# Altium footprint library ALTIUM_{TEX139}_HV-1PH-DCAC-R3.PcbLib: 57 footprints (part 4 of 4)
Each footprint in its own frame and in the unit in brackets; x right, y up, seen from the top. Pads: shape width x height; smd on the part's side, far side on the other; paste and mask are expansions set on the pad; w line width, h text height; cw(c..) or ccw(c..) is an arc to the next point about the centre after c.
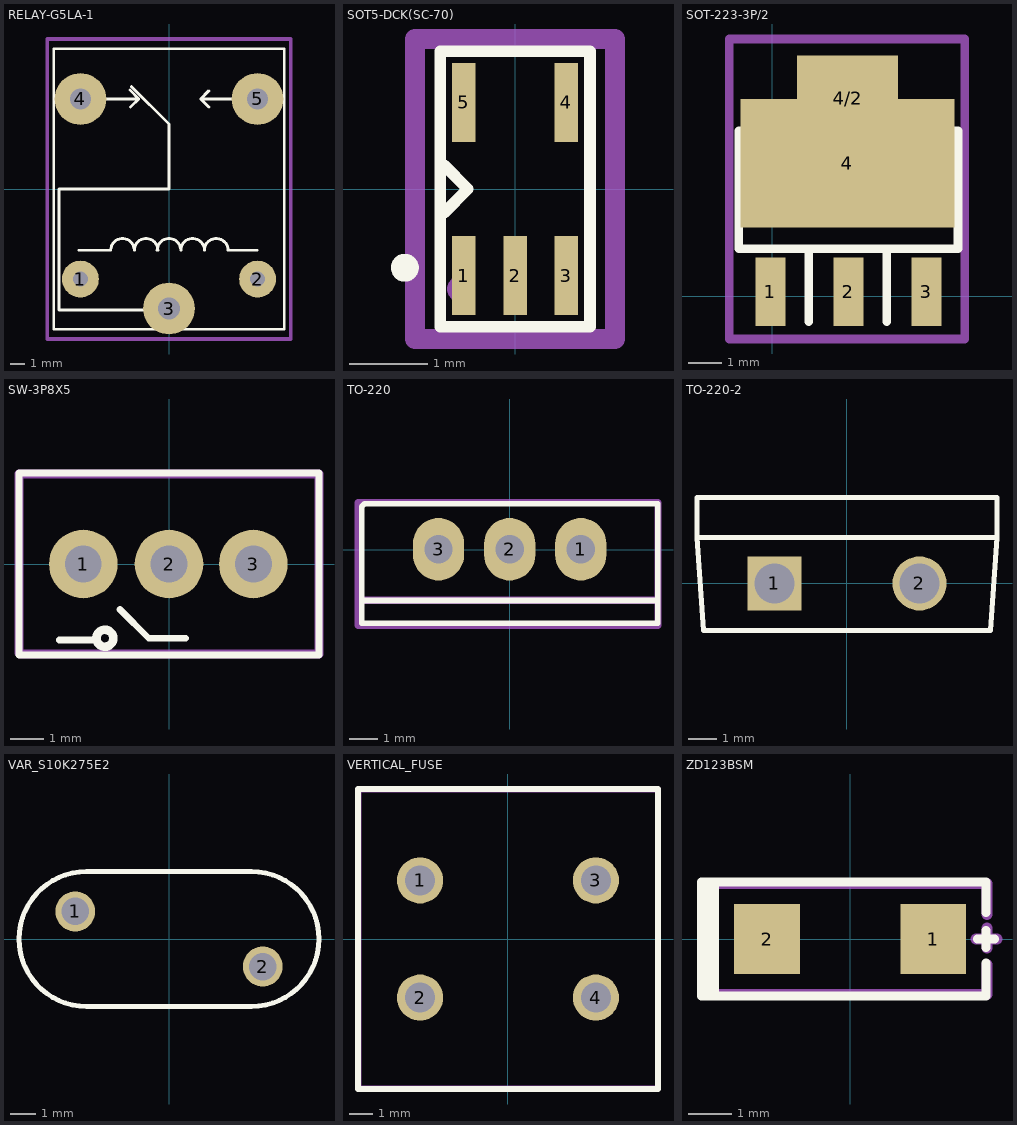
[diagram p3: the footprints below, top view; thin cyan lines are the x and y axes]

## RELAY-G5LA-1 [mm]
pads (5):
  round 2.5 hole 1: 1(-6,-6.1) 2(6,-6.1)
  round 3.5 hole 1.5: 3(0,-8.1)
  round 3.5 hole 1.4: 4(-6,6.1) 5(6,6.1)
Top Overlay:
  lines w0.15: -7.8,-9.5 7.8,-9.5 7.8,9.5 -7.8,9.5 -7.8,-9.5
  lines w0.2: -6.1,-4.15 -4.05,-4.15 ; -6,6.1 -2.05,6.1 ; -3.95,-4.15 cw(c-3.15,-4.15) -2.35,-4.15 cw(c-1.55,-4.15) -0.75,-4.15 ; -2.65,6.7 -2.05,6.1 ; -2.55,6.95 0,4.4 0,2.05 0,0 -7.45,0 -7.45,-8.2 -0.1,-8.2 ; -0.8,-4.15 cw(c0,-4.15) 0.8,-4.15 cw(c1.6,-4.15) 2.4,-4.15 cw(c3.2,-4.15) 4,-4.15 5.95,-4.15 ; 2.7,5.55 2.15,6.1 ; 2.7,6.65 2.15,6.1 ; 6,6.1 2.15,6.1 ; -2.6,5.55 -2.05,6.1 ; -2.6,5.55 -2.6,5.55
Mechanical 5:
  lines w0.254: -8.255,-10.16 8.255,-10.16 8.255,10.16 -8.255,10.16 -8.255,9.525 -8.255,-10.16
  text ".Designator" at -0.737,1.854 h1.52

## SOT5-DCK(SC-70) [mm]
pads (5):
  rect 0.3x1 smd: 1(-0.65,-1.1) 2(0,-1.1) 3(0.65,-1.1) 4(0.65,1.1) 5(-0.65,1.1)
Top Overlay:
  circle w0.254: c-1.4,-1 r0.05
  circle w0.254: c-1.4,-1 r0.05
  lines w0.15: -0.9,-0.3 -0.6,0 -0.9,0.3 ; -0.95,-1.75 0.95,-1.75 0.95,1.75 -0.95,1.75 -0.95,-1.75
Mechanical 5:
  circle w0.254: c-0.685,-1.27 r0.05
  lines w0.254: -1.27,-1.905 1.27,-1.905 1.27,1.905 -1.27,1.905 -1.27,-1.905
  text ".Designator" at 0.635,-1.27 h1.02

## SOT-223-3P/2 [mil]
pads (5):
  rect 35x80 smd: 1(-2,5.08) 2(89,5.08) 3(180,5.08)
  rect 250x150 smd: 4(88,155.08)
  rect 118x100 smd: 4/2(88.14,230.92)
Top Overlay:
  lines w10: 43,-29.92 43,55.08 ; 134,-29.92 134,55.08 ; -39,55.08 -39,193.08 217,193.08 217,55.08 89,55.08 -39,55.08
Mechanical 5:
  lines w10: -50,-50 225,-50 225,300 -50,300 -50,-50
  text ".Designator" at 172,146.85 h60

## SW-3P8X5 [mil]
pads (3):
  round 80 hole 43: 1(-100,0) 2(0,0) 3(98.43,0)
Top Overlay:
  circle w10: c-74.8,-86.61 r9.84
  lines w7.87: -127.95,-88.58 -88.58,-88.58 ; -57.09,-53.15 -23.62,-86.61 19.68,-86.61 ; -175,-106.3 -175,106.3 175,106.3 175,-106.3 -175,-106.3
Mechanical 5:
  lines w10: -175,-104 -174,-105 175,-105 175,105 -175,105 -175,-104
  text ".Designator" at 35,30 h60

## TO-220 [mm]
pads (3):
  oval 1.8x2.2 hole 1: 1(2.495,0.009) 2(-0.005,0.009) 3(-2.505,0.009)
Top Overlay:
  lines w0.2: -5.205,-1.791 5.195,-1.791 ; -5.205,-2.591 -5.205,1.509 -5.105,1.609 5.195,1.609 5.195,-2.591 -5.205,-2.591
Mechanical 5:
  lines w0.254: -5.334,-1.778 5.207,-1.778 ; -5.334,-2.667 5.207,-2.667 5.207,1.651 -5.334,1.651 -5.334,-2.667
  text ".Designator" at -1.194,-0.737 h1.52

## TO-220-2 [mm] "CREE"
height 20.066
pads (2):
  rect 1.9x1.9 hole 1.4: 1(-2.54,0)
  round 1.9 hole 1.4: 2(2.54,0)
Top Overlay:
  lines w0.178: -5.255,1.608 -5.255,3.008 5.255,3.008 5.255,1.608 ; -5.255,1.608 5.255,1.608 ; -5.255,1.608 -5.028,-1.642 5.028,-1.642 5.255,1.608
Mechanical 5:
  lines w0.127: -5.255,1.608 -5.028,-1.642 5.028,-1.642 5.255,1.608 ; -5.255,1.608 5.255,1.608 ; -5.255,1.608 -5.255,3.008 5.255,3.008 5.255,1.608
  text ".Designator" at -0.559,-0.356 h1.02
3D body: height 19.47, standoff -3.96, extent -5.207,-1.575 5.207,3.124

## VAR_S10K275E2 [mm] "EPCOS"
height 14.5
pads (2):
  round 1.6 hole 1.1: 1(-3.75,1.1) 2(3.75,-1.1)
Top Overlay:
  lines w0.2: -3.3,-2.7 cw(c-3.3,0) -3.3,2.7 3.3,2.7 cw(c3.3,0) 3.3,-2.7 -3.3,-2.7
Mechanical 5:
  lines w0.1: -3.3,-2.7 cw(c-3.3,0) -3.3,2.7 3.3,2.7 cw(c3.3,0) 3.3,-2.7 -3.3,-2.7
  text ".Designator" at -1.8,-0.5 h1.02
3D body: height 7, standoff -3, extent -4.172,0.676 -3.325,1.524
3D body: height 7, standoff -3, extent 3.328,-1.524 4.175,-0.676
3D body: height 14.99, standoff 3.01, extent -5.976,-2.7 5.976,2.7

## VERTICAL_FUSE [mm]
pads (4):
  round 2 hole 1.3: 1(-3.81,2.54) 2(-3.81,-2.54) 3(3.81,2.54) 4(3.81,-2.54)
Top Overlay:
  lines w0.254: -6.5,-6.5 -6.5,6.5 6.5,6.5 6.5,-6.5 -6.5,-6.5
Mechanical 5:
  lines w0.254: -6.477,-6.477 -6.477,6.477 6.502,6.477 6.502,-6.452 6.477,-6.477 -6.477,-6.477
  text ".Designator" at 0.381,-0.889 h1.52

## ZD123BSM [mm]
pads (2):
  rect 1.5x1.6 smd: 1(1.9,0) 2(-1.9,0)
Top Overlay:
  region: -3.5,-1.3 -3,-1.3 -3,1.3 -3.5,1.3
  lines w0.2: -3.4,-1.3 3.1,-1.3 3.1,-0.55 ; -3.4,1.3 3.1,1.3 3.1,0.6 ; -3.2,-1.3 -3.2,1.3 ; 2.9,0 3.3,0 ; 3.1,-0.2 3.1,0.2
Mechanical 5:
  lines w0.254: 2.87,0 3.353,0 ; 3.124,-0.584 3.124,-1.27 -3.353,-1.27 -3.353,1.245 -3.327,1.27 3.124,1.27 3.124,0.559 ; 3.124,-0.203 3.124,0.254
  text ".Designator" at 1.575,0.787 h1.52